# Altium schematic symbol library Jumper 6X2A.SchLib: 1 symbol
Pins are listed as number, name and electrical type; pins without a type are passive.

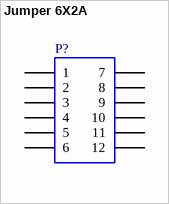
[diagram p0: symbol Jumper 6X2A]

## Jumper 6X2A
designator P?
Jumper, 6-Pin, Dual row
pins: 1, 2, 3, 4, 5, 6, 7, 8, 9, 10, 11, 12